# Altium schematic symbol library Sch_Ferriwo_Electronics.SchLib: 2 symbols
Pins are listed as number, name and electrical type; pins without a type are passive.

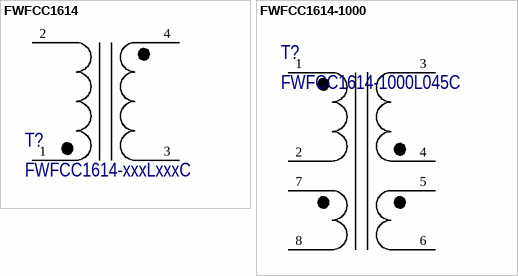
[diagram p0: symbols FWFCC1614 to FWFCC1614-1000]

## FWFCC1614
designator T?, comment FWFCC1614-xxxLxxxC
Frame Core Power Line Chokes; Manufacturer: Ferriwo Electronics; Part Number: FWFCC1614-xxxLxxxC
footprint FWFCC1614
pins: 1, 2, 3, 4

## FWFCC1614-1000
designator T?, comment FWFCC1614-1000L045C
Frame Core Power Line Chokes; Manufacturer: Ferriwo Electronics; Part Number: FWFCC1614-1000L045C
footprint FWFCC1614-1000 (Frame Core Power Line Chokes)
pins: 1, 2, 3, 4, 5, 6, 7, 8